# EAGLE library part ACS711ELCTR-12AB-T (library ruark2)
Current Sensor 12.5A 1 Channel Hall Effect, Open Loop Bidirectional 8-SOIC (0.154", 3.90mm Width), 5V
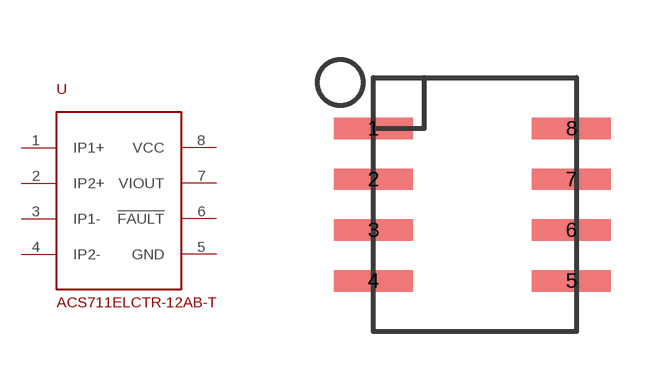
[diagram p60: symbol with the pads of SOIC8; footprint SOIC8]

Designator prefix U

## ACS711ELCTR-12AB-T (PARTNO: 620-1370-1-ND)  [SOIC8]
1  IP1+
2  IP2+
3  IP1-
4  IP2-
5  GND
6  !FAULT
7  VIOUT
8  VCC

## Footprint SOIC8 (pad centres in mm)
smd 1.981 x 0.533: 1 -2.477,1.905; 2 -2.477,0.635; 3 -2.477,-0.635; 4 -2.477,-1.905; 5 2.477,-1.905; 6 2.477,-0.635; 7 2.477,0.635; 8 2.477,1.905